# Altium footprint library SnapEDApcb.PcbLib: 1 footprints
Each footprint in its own frame and in the unit in brackets; x right, y up, seen from the top. Pads: shape width x height; smd on the part's side, far side on the other; paste and mask are expansions set on the pad; w line width, h text height; cw(c..) or ccw(c..) is an arc to the next point about the centre after c.
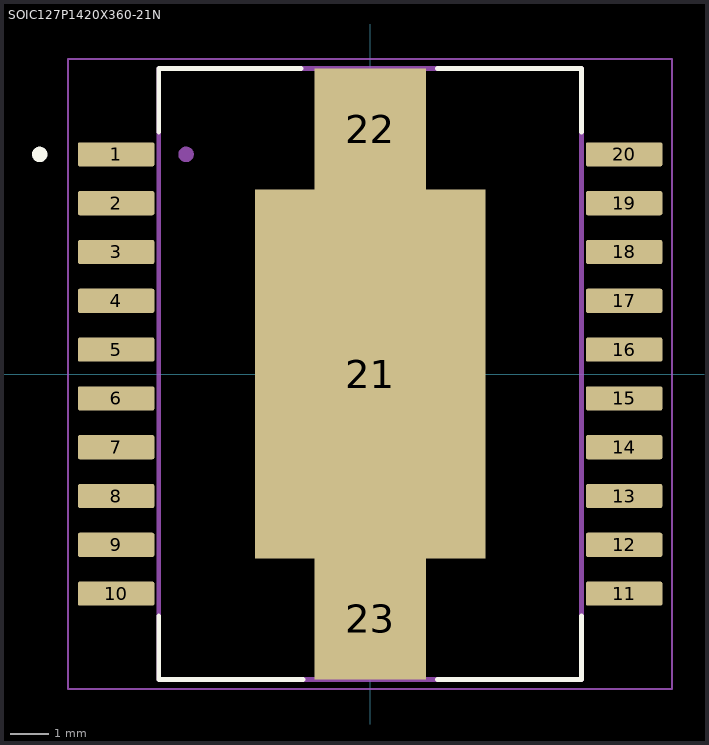
[diagram p0: the footprint, top view; thin cyan lines are the x and y axes]

## SOIC127P1420X360-21N [mm]
pads (23):
  rrect16% 1.99x0.63 smd: 1(-6.61,5.715) 2(-6.61,4.445) 3(-6.61,3.175) 4(-6.61,1.905) 5(-6.61,0.635) 6(-6.61,-0.635) 7(-6.61,-1.905) 8(-6.61,-3.175) 9(-6.61,-4.445) 10(-6.61,-5.715) 11(6.61,-5.715) 12(6.61,-4.445) 13(6.61,-3.175) 14(6.61,-1.905) 15(6.61,-0.635) 16(6.61,0.635) 17(6.61,1.905) 18(6.61,3.175) 19(6.61,4.445) 20(6.61,5.715)
  rect 6x9.6 smd paste-6: 21(0,0)
  rect 2.9x3.15 smd paste-3: 22(0,6.375) 23(0,-6.375)
Top Overlay:
  circle w0.2: c-8.6,5.715 r0.1
  lines w0.127: -5.5,-6.3 -5.5,-7.95 -1.75,-7.95 ; -5.5,6.3 -5.5,7.95 -1.8,7.95 ; 1.75,-7.95 5.5,-7.95 5.5,-6.3 ; 1.75,7.95 5.5,7.95 5.5,6.3
Top Paste:
  region: 1.9,-3.045 -1.903,-3.045 -1.903,3.04 1.9,3.04
Mechanical 13:
  circle w0.2: c-4.79,5.715 r0.1
  lines w0.127: -5.5,-7.95 5.5,-7.95 5.5,7.95 -5.5,7.95 -5.5,-7.95
Mechanical 15:
  lines w0.05: -7.86,-8.2 7.86,-8.2 7.86,8.2 -7.86,8.2 -7.86,-8.2